# EAGLE library part SMA420 (library SMA420)
4 Digit LED Numeric Display (cathode common) SMA420* China 20*51mm h
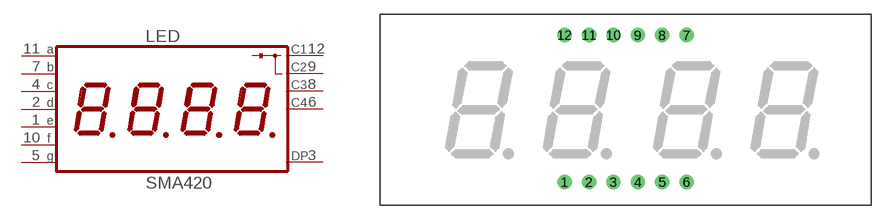
[diagram p0: symbol with the pads of 7X4-LED; footprint 7X4-LED]

Designator prefix LED

## SMA420A, SMA420B, SMA420E, SMA420M, SMA420V, SMA420X  [7X4-LED]
1  E  pas
2  D  pas
3  DP  pas
4  C  pas
5  G  pas
6  C  pas
7  B  pas
8  C  pas
9  C  pas
10  F  pas
11  A  pas
12  C  pas

## Footprint 7X4-LED (pad centres in mm)
Single Digit LED Numeric Display 10.16 mm Source: ROHM .. la-401dn.pdf
drill 0.9 pad 1.5 round: 1 -6.35,-7.5; 2 -3.81,-7.5; 3 -1.27,-7.5; 4 1.27,-7.5; 5 3.81,-7.5; 6 6.35,-7.49; 7 6.35,7.75; 8 3.81,7.75; 9 1.27,7.75; 10 -1.27,7.75; 11 -3.81,7.75; 12 -6.35,7.75